# EAGLE library part TGS-813 (library figaro)
SENSOR TGS 813 - Gas Sensor
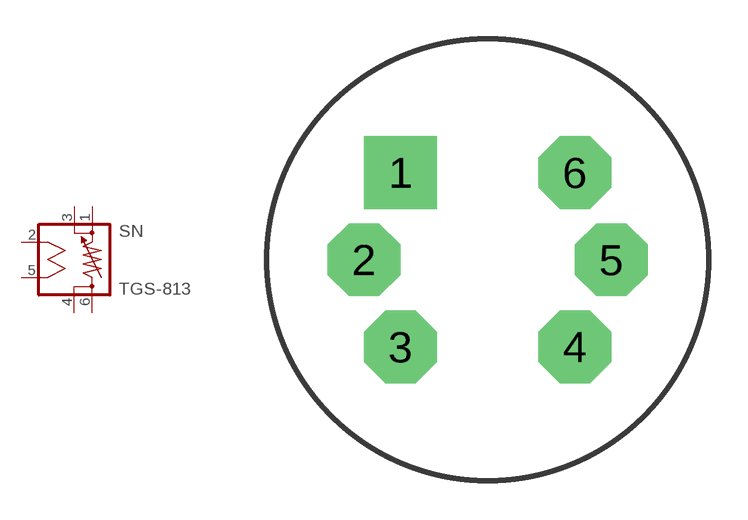
[diagram p0: symbol with the pads of TGS-813; footprint TGS-813]

Designator prefix SN

## TGS-813  [TGS-813]
1  1  pas
2  2  pas
3  3  pas
4  4  pas
5  5  pas
6  6  pas

## Footprint TGS-813 (pad centres in mm)
TGS 813
drill 1.321 pad 2.794 square: 1 -3.353,3.353
drill 1.321 pad 2.794 octagon: 2 -4.75,0; 3 -3.353,-3.353; 4 3.353,-3.353; 5 4.75,0; 6 3.353,3.353